# Altium schematic symbol library BatterieHolder.SchLib: 4 symbols
Pins are listed as number, name and electrical type; pins without a type are passive.

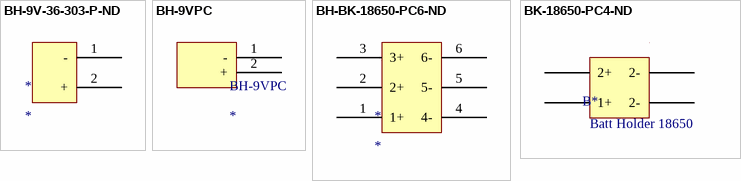
[diagram p0: symbols BH-9V-36-303-P-ND to BK-18650-PC4-ND]

## BH-9V-36-303-P-ND
designator *
footprint BH-9V-36-303-P-ND (Battery holder 9V)
pins: 1 -, 2 +

## BH-9VPC
designator BH-9VPC
footprint BH-9VPC (Connecteur qui ressemble à un morse)
pins: 1 -, 2 +

## BH-BK-18650-PC6-ND
designator *
footprint BH-BK-18650-PC6-ND (Battery holder 3 cell 18650 lithium)
pins: 1 1+, 2 2+, 3 3+, 4 4-, 5 5-, 6 6-

## BK-18650-PC4-ND
designator B*, comment Battery Holder 18560  (value not drawn)
footprint BAT_2x_18650
pins: 1 1+, 2 2+, 3 2-, 4 2-
text: Batt Holder 18650